# Altium footprint library USB_5PIN.PcbLib: 1 footprints
Each footprint in its own frame and in the unit in brackets; x right, y up, seen from the top. Pads: shape width x height; smd on the part's side, far side on the other; paste and mask are expansions set on the pad; w line width, h text height; cw(c..) or ccw(c..) is an arc to the next point about the centre after c.
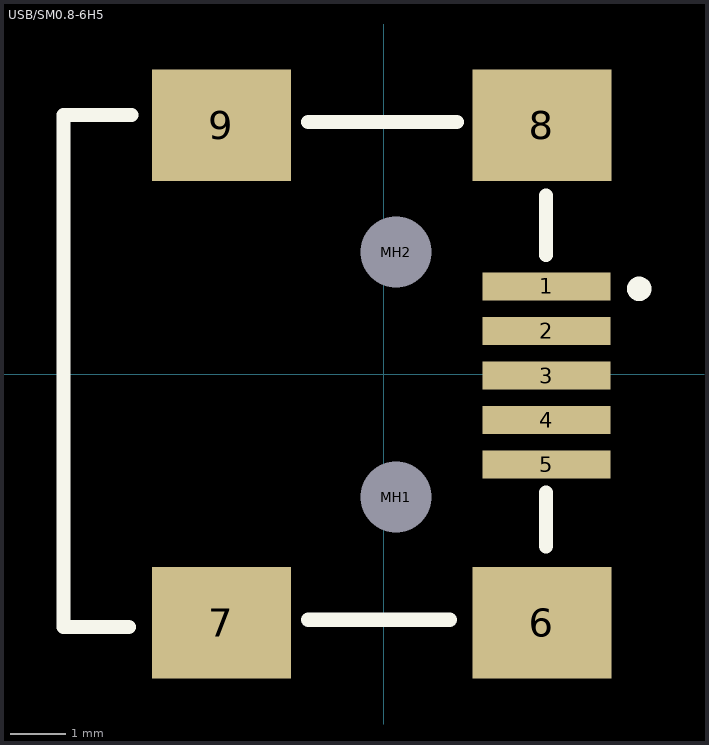
[diagram p0: the footprint, top view; thin cyan lines are the x and y axes]

## USB/SM0.8-6H5 [mm] "5PIN贴片USB"
pads (11):
  rect 2.3x0.5 smd: 1(2.919,1.573) 2(2.919,0.773) 3(2.919,-0.027) 4(2.919,-0.827) 5(2.919,-1.627)
  rect 2.5x2 smd: 6(2.835,-4.465) 7(-2.919,-4.465) 8(2.835,4.465) 9(-2.919,4.465)
  round 0.6 hole 1.27: MH1(0.216,-2.21) MH2(0.216,2.19)
Top Overlay:
  circle w0.254: c4.584,1.53 r0.092
  lines w0.254: -5.753,-4.541 -5.753,4.654 -4.534,4.654 ; -5.728,-4.541 -4.585,-4.541 ; -1.359,-4.414 1.181,-4.414 ; -1.359,4.527 1.308,4.527 ; 2.908,-3.093 2.908,-2.128 ; 2.908,2.139 2.908,3.206